# EAGLE library part CD74HC4067 (library Mikes-Stuff)
16-Channel MUX
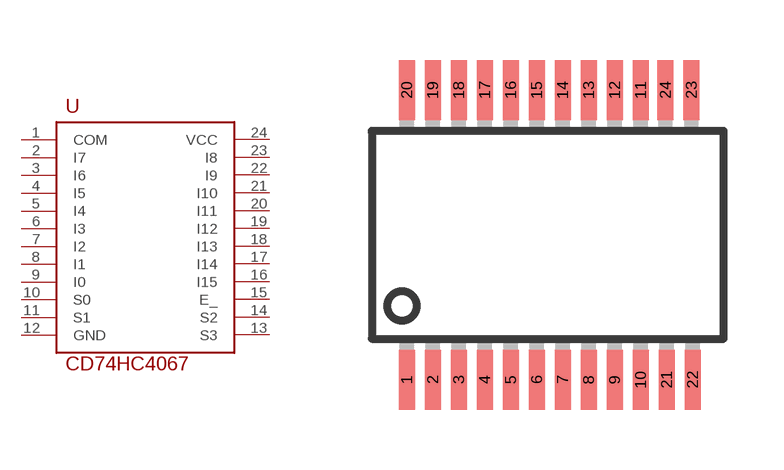
[diagram p9: symbol with the pads of SSOP24; footprint SSOP24]

Designator prefix -

## CD74HC4067SSOP24  [SSOP24]
1  COM
2  I7
3  I6
4  I5
5  I4
6  I3
7  I2
8  I1
9  I0
10  S0
11  S1
12  GND
13  S3
14  S2
15  E_
16  I15
17  I14
18  I13
19  I12
20  I11
21  I10
22  I9
23  I8
24  VCC

## Footprint SSOP24 (pad centres in mm)
smd 0.4 x 1.5: 1 -2.925,-3.625; 2 -2.275,-3.625; 3 -1.625,-3.625; 4 -0.975,-3.625; 5 -0.325,-3.625; 6 0.325,-3.625; 7 0.975,-3.625; 8 1.625,-3.625; 9 2.275,-3.625; 10 2.925,-3.625; 11 2.925,3.625; 12 2.275,3.625; 13 1.625,3.625; 14 0.975,3.625; 15 0.325,3.625; 16 -0.325,3.625; 17 -0.975,3.625; 18 -1.625,3.625; 19 -2.275,3.625; 20 -2.925,3.625; 21 3.575,-3.625; 22 4.225,-3.625; 23 4.195,3.625; 24 3.545,3.625